# Altium schematic symbol library 2021-03-26_16-16-03.SchLib: 2 symbols
Pins are listed as number, name and electrical type; pins without a type are passive.

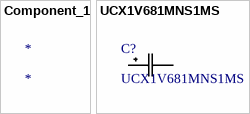
[diagram p0: symbols Component_1 to UCX1V681MNS1MS]

## Component_1
designator *

## UCX1V681MNS1MS
designator C?
No Description Available; Vendor: Nichicon; Built_By: EMA_Cory; SourceLibrary: Nichicon_2019-09-13; Type: DEV; Manufacturer_Part_Number: UCX1V681MNS1MS; Copyright: Copyright (C) 2018 Accelerated Designs. All rights reserved; RefDes: RefDes
footprint CAP_UCD_12P5X13P5_NCH
pins: 1, 2